# Altium integrated library TB006-508-05BE.IntLib: 1 symbol
Pins are listed as number, name and electrical type; pins without a type are passive.

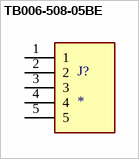
[diagram p0: symbol TB006-508-05BE]

## TB006-508-05BE
designator J?
2~24 Poles, Screw Type, Horizontal, 5.08 Pitch, 26~14 (AWG), Terminal Block Connector; MF: Same Sky; MP: TB006-508-05BE; SnapEDA_Link: https://www.snapeda.com/parts/TB006-508-05BE/Same+Sky/view-part/?ref=snap; Package: None; Value: *; Check_prices: https://www.snapeda.com/parts/TB006-508-05BE/Same+Sky/view-part/?ref=eda
footprint CUI_TB006-508-05BE
pins: 1, 2, 3, 4, 5